# EAGLE library part DSPIC33FJ128GP310-I/PT (library Microchip_By_element14_Batch_1)
16-Bit Digital Signal Controllers
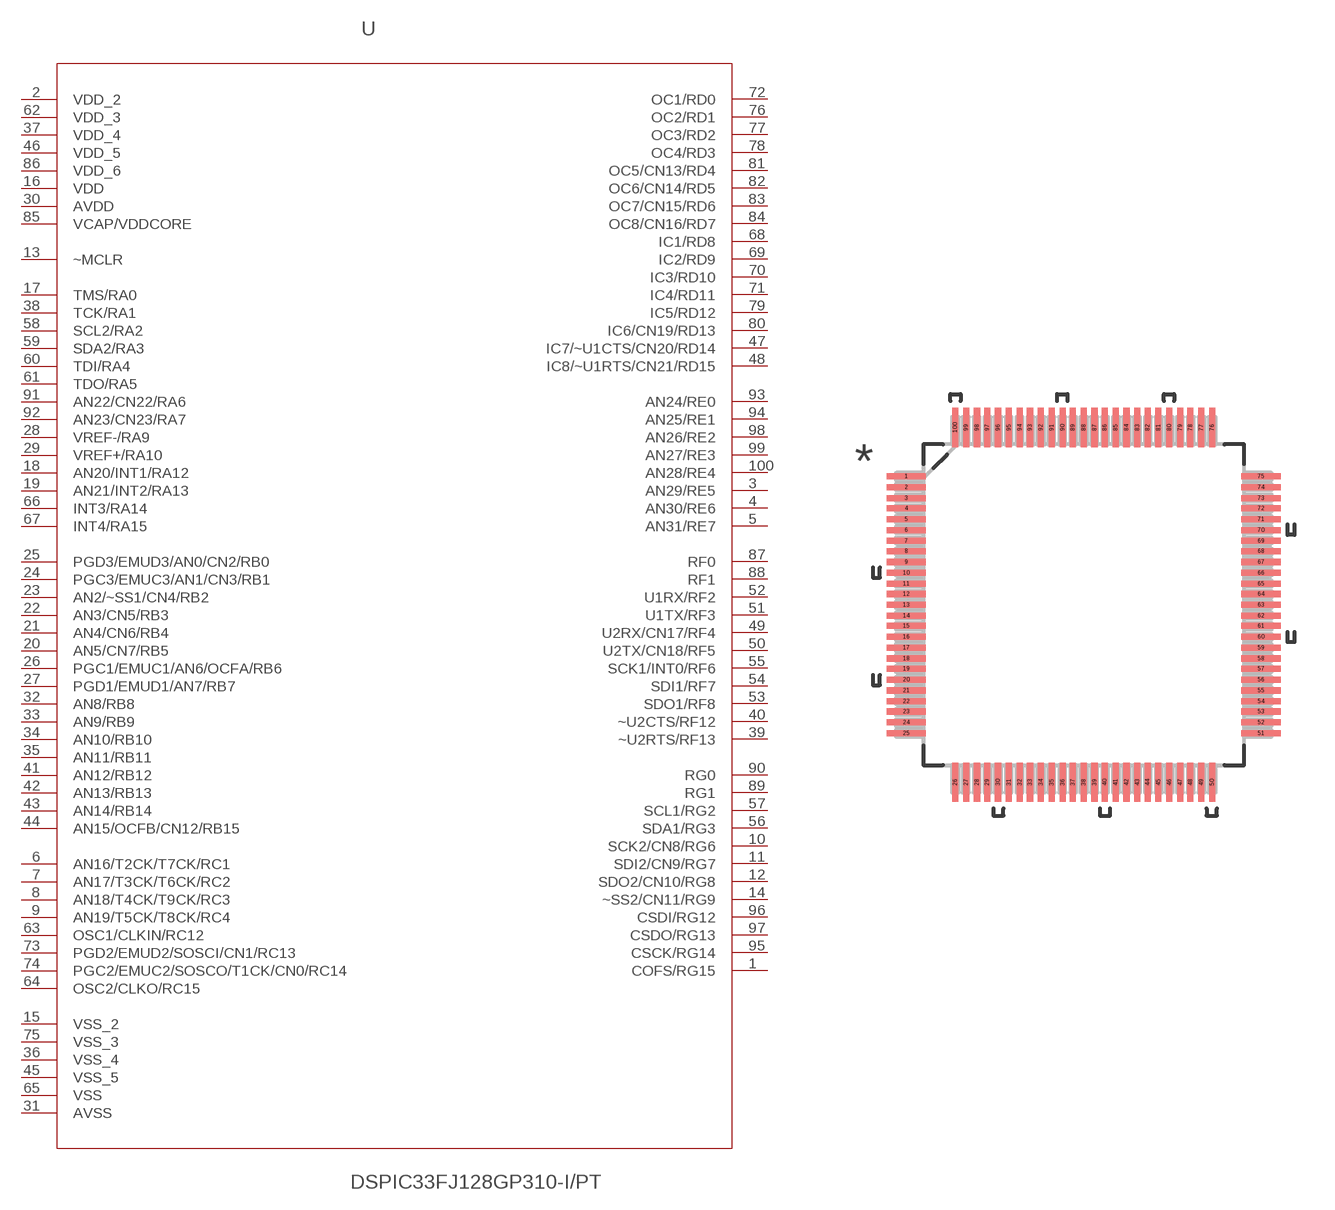
[diagram p342: symbol with the pads of QFP40P1400X1400X120-100N; footprint QFP40P1400X1400X120-100N]

Designator prefix -

## DSPIC33FJ128GP310-I/PT (DESCRIPTION: 16-Bit Digital Signal Controllers; MPN: DSPIC33FJ128GP310-I/PT; OC_FARNELL: 1332037; OC_NEWARK: 56K6733; PACKAGE: TQFP-100; SUPPLIER: Microchip)  [QFP40P1400X1400X120-100N]
1  COFS/RG15
2  VDD_2  pwr
3  AN29/RE5
4  AN30/RE6
5  AN31/RE7
6  AN16/T2CK/T7CK/RC1
7  AN17/T3CK/T6CK/RC2
8  AN18/T4CK/T9CK/RC3
9  AN19/T5CK/T8CK/RC4
10  SCK2/CN8/RG6
11  SDI2/CN9/RG7
12  SDO2/CN10/RG8
13  ~MCLR  in
14  ~SS2/CN11/RG9
15  VSS_2  pwr
16  VDD  pwr
17  TMS/RA0
18  AN20/INT1/RA12
19  AN21/INT2/RA13
20  AN5/CN7/RB5
21  AN4/CN6/RB4
22  AN3/CN5/RB3
23  AN2/~SS1/CN4/RB2
24  PGC3/EMUC3/AN1/CN3/RB1
25  PGD3/EMUD3/AN0/CN2/RB0
26  PGC1/EMUC1/AN6/OCFA/RB6
27  PGD1/EMUD1/AN7/RB7
28  VREF-/RA9
29  VREF+/RA10
30  AVDD  pwr
31  AVSS  pwr
32  AN8/RB8
33  AN9/RB9
34  AN10/RB10
35  AN11/RB11
36  VSS_4  pwr
37  VDD_4  pwr
38  TCK/RA1
39  ~U2RTS/RF13
40  ~U2CTS/RF12
41  AN12/RB12
42  AN13/RB13
43  AN14/RB14
44  AN15/OCFB/CN12/RB15
45  VSS_5  pwr
46  VDD_5  pwr
47  IC7/~U1CTS/CN20/RD14
48  IC8/~U1RTS/CN21/RD15
49  U2RX/CN17/RF4
50  U2TX/CN18/RF5
51  U1TX/RF3
52  U1RX/RF2
53  SDO1/RF8
54  SDI1/RF7
55  SCK1/INT0/RF6
56  SDA1/RG3
57  SCL1/RG2
58  SCL2/RA2
59  SDA2/RA3
60  TDI/RA4
61  TDO/RA5
62  VDD_3  pwr
63  OSC1/CLKIN/RC12
64  OSC2/CLKO/RC15
65  VSS  pwr
66  INT3/RA14
67  INT4/RA15
68  IC1/RD8
69  IC2/RD9
70  IC3/RD10
71  IC4/RD11
72  OC1/RD0
73  PGD2/EMUD2/SOSCI/CN1/RC13
74  PGC2/EMUC2/SOSCO/T1CK/CN0/RC14
75  VSS_3  pwr
76  OC2/RD1
77  OC3/RD2
78  OC4/RD3
79  IC5/RD12
80  IC6/CN19/RD13
81  OC5/CN13/RD4
82  OC6/CN14/RD5
83  OC7/CN15/RD6
84  OC8/CN16/RD7
85  VCAP/VDDCORE  pwr
86  VDD_6  pwr
87  RF0
88  RF1
89  RG1
90  RG0
91  AN22/CN22/RA6
92  AN23/CN23/RA7
93  AN24/RE0
94  AN25/RE1
95  CSCK/RG14
96  CSDI/RG12
97  CSDO/RG13
98  AN26/RE2
99  AN27/RE3
100  AN28/RE4

## Footprint QFP40P1400X1400X120-100N (pad centres in mm)
smd 1.473 x 0.229: 1 -6.629,4.801; 2 -6.629,4.394; 3 -6.629,3.988; 4 -6.629,3.607; 5 -6.629,3.2; 6 -6.629,2.794; 7 -6.629,2.388; 8 -6.629,2.007; 9 -6.629,1.6; 10 -6.629,1.194; 11 -6.629,0.787; 12 -6.629,0.406; 13 -6.629,0; 14 -6.629,-0.406; 15 -6.629,-0.787; 16 -6.629,-1.194; 17 -6.629,-1.6; 18 -6.629,-2.007; 19 -6.629,-2.388; 20 -6.629,-2.794; 21 -6.629,-3.2; 22 -6.629,-3.607; 23 -6.629,-3.988; 24 -6.629,-4.394; 25 -6.629,-4.801; 51 6.629,-4.801; 52 6.629,-4.394; 53 6.629,-3.988; 54 6.629,-3.607; 55 6.629,-3.2; 56 6.629,-2.794; 57 6.629,-2.388; 58 6.629,-2.007; 59 6.629,-1.6; 60 6.629,-1.194; 61 6.629,-0.787; 62 6.629,-0.406; 63 6.629,0; 64 6.629,0.406; 65 6.629,0.787; 66 6.629,1.194; 67 6.629,1.6; 68 6.629,2.007; 69 6.629,2.388; 70 6.629,2.794; 71 6.629,3.2; 72 6.629,3.607; 73 6.629,3.988; 74 6.629,4.394; 75 6.629,4.801
smd 0.229 x 1.473: 26 -4.801,-6.629; 27 -4.394,-6.629; 28 -3.988,-6.629; 29 -3.607,-6.629; 30 -3.2,-6.629; 31 -2.794,-6.629; 32 -2.388,-6.629; 33 -2.007,-6.629; 34 -1.6,-6.629; 35 -1.194,-6.629; 36 -0.787,-6.629; 37 -0.406,-6.629; 38 0,-6.629; 39 0.406,-6.629; 40 0.787,-6.629; 41 1.194,-6.629; 42 1.6,-6.629; 43 2.007,-6.629; 44 2.388,-6.629; 45 2.794,-6.629; 46 3.2,-6.629; 47 3.607,-6.629; 48 3.988,-6.629; 49 4.394,-6.629; 50 4.801,-6.629; 76 4.801,6.629; 77 4.394,6.629; 78 3.988,6.629; 79 3.607,6.629; 80 3.2,6.629; 81 2.794,6.629; 82 2.388,6.629; 83 2.007,6.629; 84 1.6,6.629; 85 1.194,6.629; 86 0.787,6.629; 87 0.406,6.629; 88 0,6.629; 89 -0.406,6.629; 90 -0.787,6.629; 91 -1.194,6.629; 92 -1.6,6.629; 93 -2.007,6.629; 94 -2.388,6.629; 95 -2.794,6.629; 96 -3.2,6.629; 97 -3.607,6.629; 98 -3.988,6.629; 99 -4.394,6.629; 100 -4.801,6.629